# EAGLE library part CON_01X08 (library PP_Connectors)
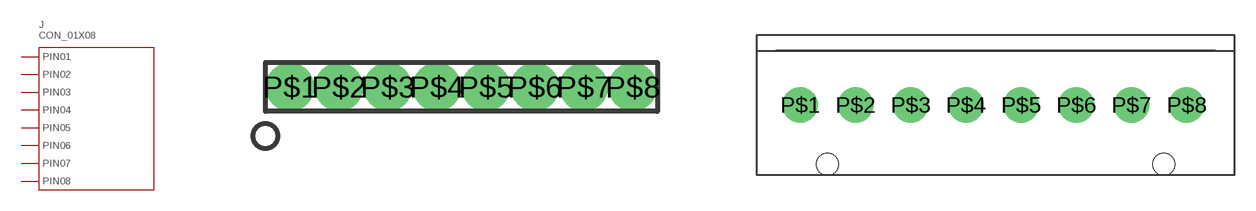
[diagram p3: symbol with the pads of 1.27MM_01X08_PIN_HEADER; footprints 1.27MM_01X08_PIN_HEADER, 26-64-4080]

Designator prefix J

## CON_01X08_1.27MM_PIN_HEADER (POPULATE: 1)  [1.27MM_01X08_PIN_HEADER]
P$1  1
P$2  2
P$3  3
P$4  4
P$5  5
P$6  6
P$7  7
P$8  8

## CON_01X08MOLEX_KK_8 (POPULATE: 1)  [26-64-4080]
Pads as for 1.27MM_01X08_PIN_HEADER

## CON_01X08_2.54MM_PIN_HEADER (POPULATE: 1)  [2.54MM_01X08_PIN_HEADER]
1  1
2  2
3  3
4  4
5  5
6  6
7  7
8  8

## Footprint 1.27MM_01X08_PIN_HEADER (pad centres in mm)
drill 0.75 pad 1.016: P$1 -4.445,0; P$2 -3.175,0; P$3 -1.905,0; P$4 -0.635,0; P$5 0.635,0; P$6 1.905,0; P$7 3.175,0; P$8 4.445,0

## Footprint 26-64-4080 (pad centres in mm)
drill 1.7: P$1 -13.86,0; P$2 -9.9,0; P$3 -5.94,0; P$4 -1.98,0; P$5 1.98,0; P$6 5.94,0; P$7 9.9,0; P$8 13.86,0
hole 1.6 at -11.915,-4.24
hole 1.6 at 12.215,-4.24

## Footprint 2.54MM_01X08_PIN_HEADER (pad centres in mm)
drill 1: 1 -8.89,0; 2 -6.35,0; 3 -3.81,0; 4 -1.27,0; 5 1.27,0; 6 3.81,0; 7 6.35,0; 8 8.89,0